# EAGLE library part GPS_BOARD (library GpsBoard)
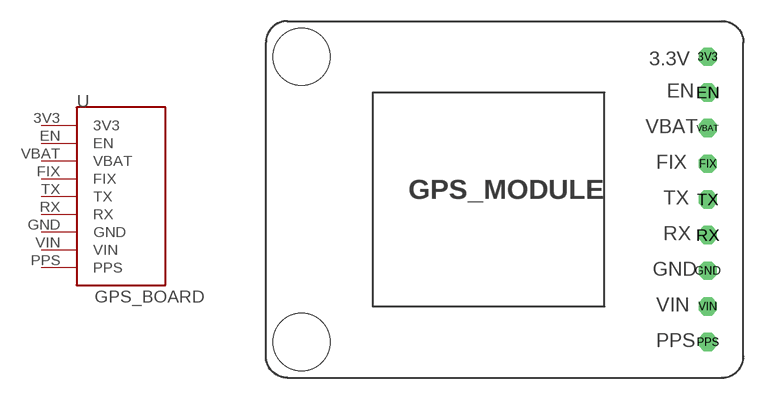
[diagram p0: symbol with the pads of SD_BOARD; footprint SD_BOARD]

Designator prefix -

## GPS_BOARD  [SD_BOARD]
3V3  3V3
EN  EN
FIX  FIX
GND  GND
PPS  PPS
RX  RX
TX  TX
VBAT  VBAT
VIN  VIN

## Footprint SD_BOARD (pad centres in mm)
drill 0.8 octagon: 3V3 31.496,22.86; EN 31.496,20.32; FIX 31.496,15.24; GND 31.496,7.62; PPS 31.496,2.54; RX 31.496,10.16; TX 31.496,12.7; VBAT 31.496,17.78; VIN 31.496,5.08
hole 4.064 at 2.54,22.86
hole 4.064 at 2.54,2.54